# EAGLE library part MC4558CPT (library fab)
The MC4558 is a high performance monolithic dual operational amplifier. The circuit combines all of the outstanding features of the MC1458, and in addition possesses three times the unity gain bandwidth of the industry standard.
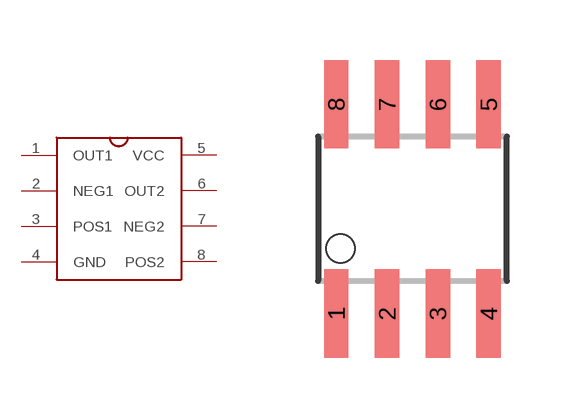
[diagram p15: symbol with the pads of SO08; footprint SO08]

Designator prefix -

## MC4558CPT  [SO08]
1  OUT1
2  NEG1
3  POS1
4  GND
5  VCC
6  OUT2
7  NEG2
8  POS2

## Footprint SO08 (pad centres in mm)
Small Outline Package
smd 0.61 x 2.21: 1 -1.905,-2.616; 2 -0.635,-2.616; 3 0.635,-2.616; 4 1.905,-2.616; 5 1.905,2.616; 6 0.635,2.616; 7 -0.635,2.616; 8 -1.905,2.616